# EAGLE library part PROG-PADS (library prog-pads)
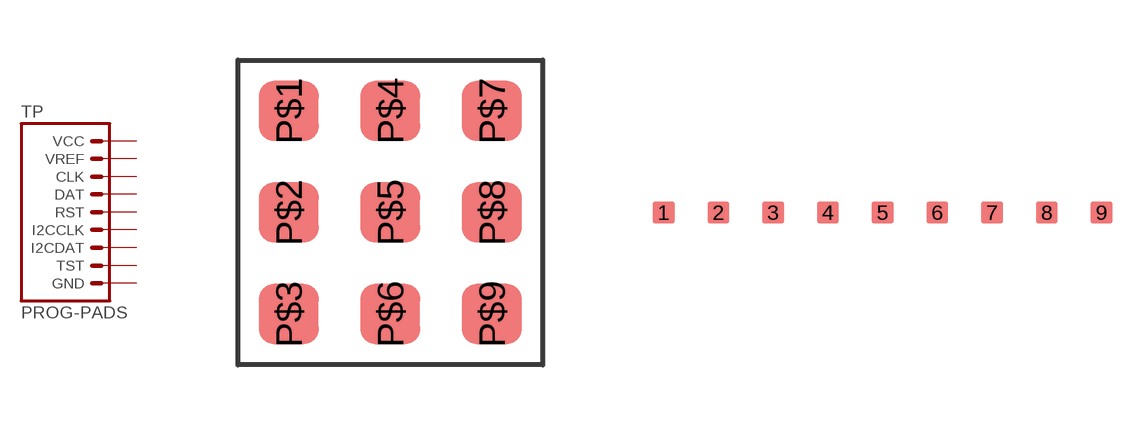
[diagram p0: symbol with the pads of PROG_PADS; footprints PROG_PADS, PROG_PADS_ROW]

Designator prefix TP

## PROG-PADS  [PROG_PADS]
P$1  VCC  pas
P$2  VREF  pas
P$3  RST  pas
P$4  CLK  pas
P$5  DAT  pas
P$6  I2CCLK  pas
P$7  I2CDAT  pas
P$8  TST  pas
P$9  GND  pwr

## PROG-PADSROW  [PROG_PADS_ROW]
1  VREF  pas
2  RST  pas
3  TST  pas
4  CLK  pas
5  DAT  pas
6  I2CCLK  pas
7  I2CDAT  pas
8  VCC  pas
9  GND  pwr

## Footprint PROG_PADS (pad centres in mm)
smd 1.5 x 1.5: P$1 -2.54,2.54; P$2 -2.54,0; P$3 -2.54,-2.54; P$4 0,2.54; P$5 0,0; P$6 0,-2.54; P$7 2.54,2.54; P$8 2.54,0; P$9 2.54,-2.54

## Footprint PROG_PADS_ROW (pad centres in mm)
smd 1 x 1: 1 -10.16,0; 2 -7.62,0; 3 -5.08,0; 4 -2.54,0; 5 0,0; 6 2.54,0; 7 5.08,0; 8 7.62,0; 9 10.16,0